# EAGLE library part M32170_74(255PIN) (library renesas_mcu)
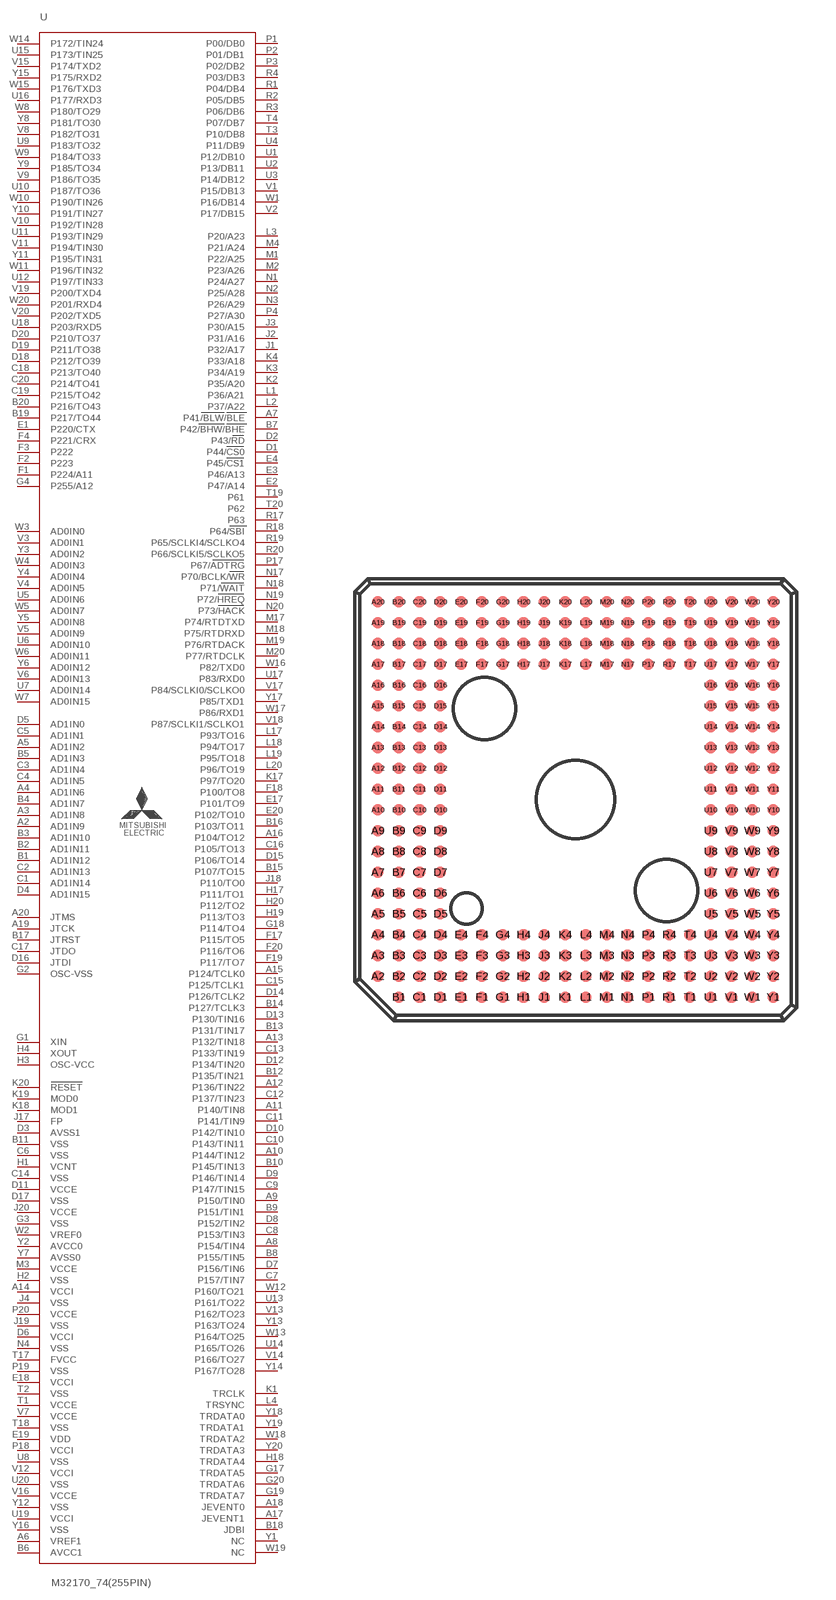
[diagram p38: symbol with the pads of 255F7F; footprint 255F7F]

Designator prefix -

## M32170_74(255PIN)  [255F7F]
A2  AD1IN9  in
A3  AD1IN8  in
A4  AD1IN6  in
A5  AD1IN2  in
A6  VREF1  pwr
A7  P41/BLW/BLE
A8  P154/TIN4  in
A9  P150/TIN0  in
A10  P144/TIN12  in
A11  P140/TIN8  in
A12  P136/TIN22  in
A13  P132/TIN18  in
A14  VCCI  pwr
A15  P124/TCLK0  in
A16  P104/TO12  in
A17  JEVENT1  out
A18  JEVENT0  out
A19  JTCK  in
A20  JTMS  in
B1  AD1IN12  in
B2  AD1IN11  in
B3  AD1IN10  in
B4  AD1IN7  in
B5  AD1IN3  in
B6  AVCC1  pwr
B7  P42/BHW/BHE
B8  P155/TIN5  in
B9  P151/TIN1  in
B10  P145/TIN13  in
B11  VSS  pwr
B12  P135/TIN21  in
B13  P131/TIN17  in
B14  P127/TCLK3  in
B15  P107/TO15  in
B16  P103/TO11  in
B17  JTRST  in
B18  JDBI  in
B19  P217/TO44
B20  P216/TO43
C1  AD1IN14  in
C2  AD1IN13  in
C3  AD1IN4  in
C4  AD1IN5  in
C5  AD1IN1  in
C6  VSS  pwr
C7  P157/TIN7  in
C8  P153/TIN3  in
C9  P147/TIN15  in
C10  P143/TIN11  in
C11  P141/TIN9  in
C12  P137/TIN23  in
C13  P133/TIN19  in
C14  VSS  pwr
C15  P125/TCLK1  in
C16  P105/TO13  in
C17  JTDO  out
C18  P213/TO40
C19  P215/TO42
C20  P214/TO41
D1  P44/CS0
D2  P43/RD
D3  AVSS1  pwr
D4  AD1IN15  in
D5  AD1IN0  in
D6  VCCI  pwr
D7  P156/TIN6  in
D8  P152/TIN2  in
D9  P146/TIN14  in
D10  P142/TIN10  in
D11  VCCE  pwr
D12  P134/TIN20  in
D13  P130/TIN16  in
D14  P126/TCLK2  in
D15  P106/TO14  in
D16  JTDI  in
D17  VSS  pwr
D18  P212/TO39
D19  P211/TO38
D20  P210/TO37
E1  P220/CTX
E2  P47/A14
E3  P46/A13
E4  P45/CS1
E17  P101/TO9  in
E18  VCCI  pwr
E19  VDD  pwr
E20  P102/TO10  in
F1  P224/A11
F2  P223
F3  P222
F4  P221/CRX  in
F17  P115/TO5  in
F18  P100/TO8  in
F19  P117/TO7  in
F20  P116/TO6  in
G1  XIN  in
G2  OSC-VSS  in
G3  VSS  pwr
G4  P255/A12
G17  TRDATA5  out
G18  P114/TO4  in
G19  TRDATA7  out
G20  TRDATA6  out
H1  VCNT  pwr
H2  VSS  pwr
H3  OSC-VCC  in
H4  XOUT  out
H17  P111/TO1  in
H18  TRDATA4  out
H19  P113/TO3  in
H20  P112/TO2  in
J1  P32/A17
J2  P31/A16
J3  P30/A15
J4  VSS  pwr
J17  FP  in
J18  P110/TO0  in
J19  VSS  pwr
J20  VCCE  pwr
K1  TRCLK  out
K2  P35/A20
K3  P34/A19
K4  P33/A18
K17  P97/TO20  in
K18  MOD1  in
K19  MOD0  in
K20  RESET  in
L1  P36/A21
L2  P37/A22
L3  P20/A23
L4  TRSYNC  out
L17  P93/TO16  in
L18  P94/TO17  in
L19  P95/TO18  in
L20  P96/TO19  in
M1  P22/A25
M2  P23/A26
M3  VCCE  pwr
M4  P21/A24
M17  P74/RTDTXD  in
M18  P75/RTDRXD  in
M19  P76/RTDACK  in
M20  P77/RTDCLK  in
N1  P24/A27
N2  P25/A28
N3  P26/A29
N4  VSS  pwr
N17  P70/BCLK/WR  in
N18  P71/WAIT  in
N19  P72/HREQ  in
N20  P73/HACK  in
P1  P00/DB0
P2  P01/DB1
P3  P02/DB2
P4  P27/A30
P17  P67/ADTRG
P18  VCCI  pwr
P19  VSS  pwr
P20  VCCE  pwr
R1  P04/DB4
R2  P05/DB5
R3  P06/DB6
R4  P03/DB3
R17  P63
R18  P64/SBI  in
R19  P65/SCLKI4/SCLKO4
R20  P66/SCLKI5/SCLKO5
T1  VCCE  pwr
T2  VSS  pwr
T3  P10/DB8
T4  P07/DB7
T17  FVCC  pwr
T18  VSS  pwr
T19  P61
T20  P62
U1  P12/DB10
U2  P13/DB11
U3  P14/DB12
U4  P11/DB9
U5  AD0IN6  in
U6  AD0IN10  in
U7  AD0IN14  in
U8  VSS  pwr
U9  P183/TO32
U10  P187/TO36
U11  P193/TIN29
U12  P197/TIN33
U13  P161/TO22  in
U14  P165/TO26  in
U15  P173/TIN25
U16  P177/RXD3
U17  P83/RXD0  in
U18  P203/RXD5
U19  VCCI  pwr
U20  VSS  pwr
V1  P15/DB13
V2  P17/DB15
V3  AD0IN1  in
V4  AD0IN5  in
V5  AD0IN9  in
V6  AD0IN13  in
V7  VCCE  pwr
V8  P182/TO31
V9  P186/TO35
V10  P192/TIN28
V11  P194/TIN30
V12  VCCI  pwr
V13  P162/TO23  in
V14  P166/TO27  in
V15  P174/TXD2
V16  VCCE  pwr
V17  P84/SCLKI0/SCLKO0  in
V18  P87/SCLKI1/SCLKO1  in
V19  P200/TXD4
V20  P202/TXD5
W1  P16/DB14
W2  VREF0  pwr
W3  AD0IN0  in
W4  AD0IN3  in
W5  AD0IN7  in
W6  AD0IN11  in
W7  AD0IN15  in
W8  P180/TO29
W9  P184/TO33
W10  P190/TIN26
W11  P196/TIN32
W12  P160/TO21  in
W13  P164/TO25  in
W14  P172/TIN24
W15  P176/TXD3
W16  P82/TXD0  in
W17  P86/RXD1  in
W18  TRDATA2  out
W19  NC  nc
W20  P201/RXD4
Y1  NC  nc
Y2  AVCC0  pwr
Y3  AD0IN2  in
Y4  AD0IN4  in
Y5  AD0IN8  in
Y6  AD0IN12  in
Y7  AVSS0  pwr
Y8  P181/TO30
Y9  P185/TO34
Y10  P191/TIN27
Y11  P195/TIN31
Y12  VSS  pwr
Y13  P163/TO24  in
Y14  P167/TO28  in
Y15  P175/RXD2
Y16  VSS  pwr
Y17  P85/TXD1  in
Y18  TRDATA0  out
Y19  TRDATA1  out
Y20  TRDATA3  out

## Footprint 255F7F (pad centres in mm)
smd 0.45 x 0.45: A2 -7.6,-6.8; A3 -7.6,-6; A4 -7.6,-5.2; A5 -7.6,-4.4; A6 -7.6,-3.6; A7 -7.6,-2.8; A8 -7.6,-2; A9 -7.6,-1.2; A10 -7.6,-0.4; A11 -7.6,0.4; A12 -7.6,1.2; A13 -7.6,2; A14 -7.6,2.8; A15 -7.6,3.6; A16 -7.6,4.4; A17 -7.6,5.2; A18 -7.6,6; A19 -7.6,6.8; A20 -7.6,7.6; B1 -6.8,-7.6; B2 -6.8,-6.8; B3 -6.8,-6; B4 -6.8,-5.2; B5 -6.8,-4.4; B6 -6.8,-3.6; B7 -6.8,-2.8; B8 -6.8,-2; B9 -6.8,-1.2; B10 -6.8,-0.4; B11 -6.8,0.4; B12 -6.8,1.2; B13 -6.8,2; B14 -6.8,2.8; B15 -6.8,3.6; B16 -6.8,4.4; B17 -6.8,5.2; B18 -6.8,6; B19 -6.8,6.8; B20 -6.8,7.6; C1 -6,-7.6; C2 -6,-6.8; C3 -6,-6; C4 -6,-5.2; C5 -6,-4.4; C6 -6,-3.6; C7 -6,-2.8; C8 -6,-2; C9 -6,-1.2; C10 -6,-0.4; C11 -6,0.4; C12 -6,1.2; C13 -6,2; C14 -6,2.8; C15 -6,3.6; C16 -6,4.4; C17 -6,5.2; C18 -6,6; C19 -6,6.8; C20 -6,7.6; D1 -5.2,-7.6; D2 -5.2,-6.8; D3 -5.2,-6; D4 -5.2,-5.2; D5 -5.2,-4.4; D6 -5.2,-3.6; D7 -5.2,-2.8; D8 -5.2,-2; D9 -5.2,-1.2; D10 -5.2,-0.4; D11 -5.2,0.4; D12 -5.2,1.2; D13 -5.2,2; D14 -5.2,2.8; D15 -5.2,3.6; D16 -5.2,4.4; D17 -5.2,5.2; D18 -5.2,6; D19 -5.2,6.8; D20 -5.2,7.6; E1 -4.4,-7.6; E2 -4.4,-6.8; E3 -4.4,-6; E4 -4.4,-5.2; E17 -4.4,5.2; E18 -4.4,6; E19 -4.4,6.8; E20 -4.4,7.6; F1 -3.6,-7.6; F2 -3.6,-6.8; F3 -3.6,-6; F4 -3.6,-5.2; F17 -3.6,5.2; F18 -3.6,6; F19 -3.6,6.8; F20 -3.6,7.6; G1 -2.8,-7.6; G2 -2.8,-6.8; G3 -2.8,-6; G4 -2.8,-5.2; G17 -2.8,5.2; G18 -2.8,6; G19 -2.8,6.8; G20 -2.8,7.6; H1 -2,-7.6; H2 -2,-6.8; H3 -2,-6; H4 -2,-5.2; H17 -2,5.2; H18 -2,6; H19 -2,6.8; H20 -2,7.6; J1 -1.2,-7.6; J2 -1.2,-6.8; J3 -1.2,-6; J4 -1.2,-5.2; J17 -1.2,5.2; J18 -1.2,6; J19 -1.2,6.8; J20 -1.2,7.6; K1 -0.4,-7.6; K2 -0.4,-6.8; K3 -0.4,-6; K4 -0.4,-5.2; K17 -0.4,5.2; K18 -0.4,6; K19 -0.4,6.8; K20 -0.4,7.6; L1 0.4,-7.6; L2 0.4,-6.8; L3 0.4,-6; L4 0.4,-5.2; L17 0.4,5.2; L18 0.4,6; L19 0.4,6.8; L20 0.4,7.6; M1 1.2,-7.6; M2 1.2,-6.8; M3 1.2,-6; M4 1.2,-5.2; M17 1.2,5.2; M18 1.2,6; M19 1.2,6.8; M20 1.2,7.6; N1 2,-7.6; N2 2,-6.8; N3 2,-6; N4 2,-5.2; N17 2,5.2; N18 2,6; N19 2,6.8; N20 2,7.6; P1 2.8,-7.6; P2 2.8,-6.8; P3 2.8,-6; P4 2.8,-5.2; P17 2.8,5.2; P18 2.8,6; P19 2.8,6.8; P20 2.8,7.6; R1 3.6,-7.6; R2 3.6,-6.8; R3 3.6,-6; R4 3.6,-5.2; R17 3.6,5.2; R18 3.6,6; R19 3.6,6.8; R20 3.6,7.6; T1 4.4,-7.6; T2 4.4,-6.8; T3 4.4,-6; T4 4.4,-5.2; T17 4.4,5.2; T18 4.4,6; T19 4.4,6.8; T20 4.4,7.6; U1 5.2,-7.6; U2 5.2,-6.8; U3 5.2,-6; U4 5.2,-5.2; U5 5.2,-4.4; U6 5.2,-3.6; U7 5.2,-2.8; U8 5.2,-2; U9 5.2,-1.2; U10 5.2,-0.4; U11 5.2,0.4; U12 5.2,1.2; U13 5.2,2; U14 5.2,2.8; U15 5.2,3.6; U16 5.2,4.4; U17 5.2,5.2; U18 5.2,6; U19 5.2,6.8; U20 5.2,7.6; V1 6,-7.6; V2 6,-6.8; V3 6,-6; V4 6,-5.2; V5 6,-4.4; V6 6,-3.6; V7 6,-2.8; V8 6,-2; V9 6,-1.2; V10 6,-0.4; V11 6,0.4; V12 6,1.2; V13 6,2; V14 6,2.8; V15 6,3.6; V16 6,4.4; V17 6,5.2; V18 6,6; V19 6,6.8; V20 6,7.6; W1 6.8,-7.6; W2 6.8,-6.8; W3 6.8,-6; W4 6.8,-5.2; W5 6.8,-4.4; W6 6.8,-3.6; W7 6.8,-2.8; W8 6.8,-2; W9 6.8,-1.2; W10 6.8,-0.4; W11 6.8,0.4; W12 6.8,1.2; W13 6.8,2; W14 6.8,2.8; W15 6.8,3.6; W16 6.8,4.4; W17 6.8,5.2; W18 6.8,6; W19 6.8,6.8; W20 6.8,7.6; Y1 7.6,-7.6; Y2 7.6,-6.8; Y3 7.6,-6; Y4 7.6,-5.2; Y5 7.6,-4.4; Y6 7.6,-3.6; Y7 7.6,-2.8; Y8 7.6,-2; Y9 7.6,-1.2; Y10 7.6,-0.4; Y11 7.6,0.4; Y12 7.6,1.2; Y13 7.6,2; Y14 7.6,2.8; Y15 7.6,3.6; Y16 7.6,4.4; Y17 7.6,5.2; Y18 7.6,6; Y19 7.6,6.8; Y20 7.6,7.6